# Altium schematic symbol library SCH - MCU - NUVOTON - NUVOTON NUC029MDE.SchLib: 1 symbol
Pins are listed as number, name and electrical type; pins without a type are passive.

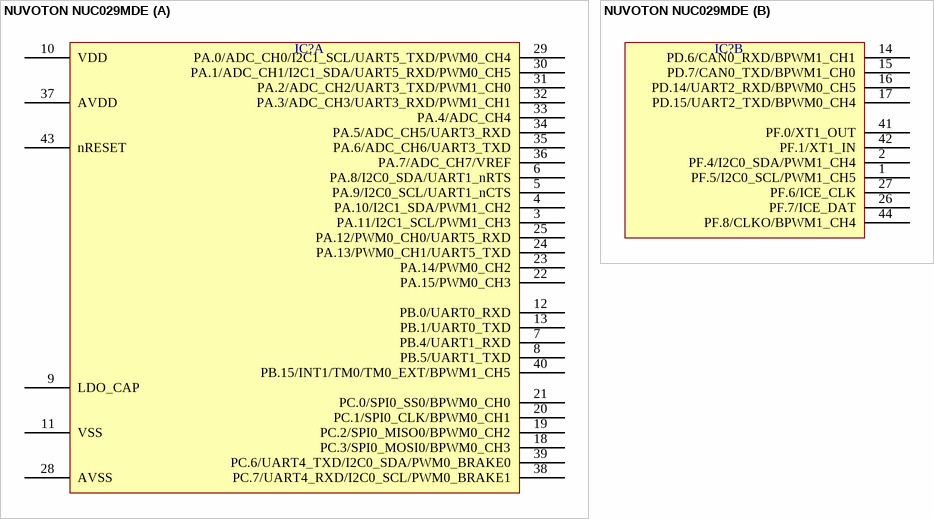
[diagram p0: symbol NUVOTON NUC029MDE]

## NUVOTON NUC029MDE
designator IC?  (value not drawn)
part A pins: 3 PA.11/I2C1_SCL/PWM1_CH3, 4 PA.10/I2C1_SDA/PWM1_CH2, 5 PA.9/I2C0_SCL/UART1_nCTS, 6 PA.8/I2C0_SDA/UART1_nRTS, 7 PB.4/UART1_RXD, 8 PB.5/UART1_TXD, 9 LDO_CAP, 10 VDD, 11 VSS, 12 PB.0/UART0_RXD, 13 PB.1/UART0_TXD, 18 PC.3/SPI0_MOSI0/BPWM0_CH3, 19 PC.2/SPI0_MISO0/BPWM0_CH2, 20 PC.1/SPI0_CLK/BPWM0_CH1, 21 PC.0/SPI0_SS0/BPWM0_CH0, 22 PA.15/PWM0_CH3, 23 PA.14/PWM0_CH2, 24 PA.13/PWM0_CH1/UART5_TXD, 25 PA.12/PWM0_CH0/UART5_RXD, 28 AVSS, 29 PA.0/ADC_CH0/I2C1_SCL/UART5_TXD/PWM0_CH4, 30 PA.1/ADC_CH1/I2C1_SDA/UART5_RXD/PWM0_CH5, 31 PA.2/ADC_CH2/UART3_TXD/PWM1_CH0, 32 PA.3/ADC_CH3/UART3_RXD/PWM1_CH1, 33 PA.4/ADC_CH4, 34 PA.5/ADC_CH5/UART3_RXD, 35 PA.6/ADC_CH6/UART3_TXD, 36 PA.7/ADC_CH7/VREF, 37 AVDD, 38 PC.7/UART4_RXD/I2C0_SCL/PWM0_BRAKE1, 39 PC.6/UART4_TXD/I2C0_SDA/PWM0_BRAKE0, 40 PB.15/INT1/TM0/TM0_EXT/BPWM1_CH5, 43 nRESET
part B pins: 1 PF.5/I2C0_SCL/PWM1_CH5, 2 PF.4/I2C0_SDA/PWM1_CH4, 14 PD.6/CAN0_RXD/BPWM1_CH1, 15 PD.7/CAN0_TXD/BPWM1_CH0, 16 PD.14/UART2_RXD/BPWM0_CH5, 17 PD.15/UART2_TXD/BPWM0_CH4, 26 PF.7/ICE_DAT, 27 PF.6/ICE_CLK, 41 PF.0/XT1_OUT, 42 PF.1/XT1_IN, 44 PF.8/CLKO/BPWM1_CH4